# EAGLE library part 6-1393243-8 (library Relays)
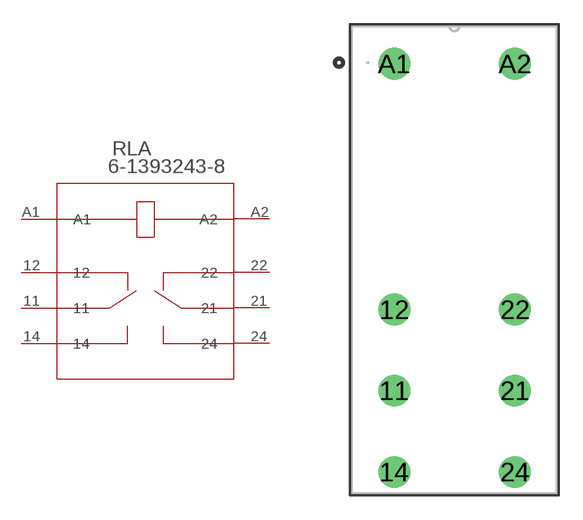
[diagram p75: symbol with the pads of RELAY8_6-1393243-8; footprint RELAY8_6-1393243-8]

Designator prefix RLA

## 6-1393243-8 (BUILT_BY: EMA_UL_Team; CATEGORY: Power Relays; CONTACT_ARRANGEMENT: 2 Form C (CO); COPYRIGHT: Copyright (C) 2016 Accelerated Designs. All rights reserved; DESCRIPTION: RT424024; MANUFACTURER_PART_NUMBER: RT424024; MAXIMUM_SWITCHING_CURRENT: -; MAXIMUM_SWITCHING_VOLTAGE: -; PART_STATUS: active; PRODUCT_TYPE: -; RELAY_TYPE: -; SERIES: SCHRACK Power PCB Relay RT2; TE_PART_NUMBER: RT424024 (6-1393243-8); VENDOR: TE Connectivity)  [RELAY8_6-1393243-8]
11  11  pas
12  12  pas
14  14  pas
21  21  pas
22  22  pas
24  24  pas
A1  A1  pas
A2  A2  pas

## Footprint RELAY8_6-1393243-8 (pad centres in mm)
drill 1.321 pad 1.829: 11 -7.493,4.013; 12 -7.493,9.042; 14 -7.493,-1.041; 21 0,4.013; 22 0,9.042; 24 0,-1.041; A1 -7.493,24.308; A2 0,24.308